# EAGLE library part CH9121 (library misc)
Ethernet Transceivers 1.8V, 3.3V IEEE 802.3 LQFP-64_10x10x05P
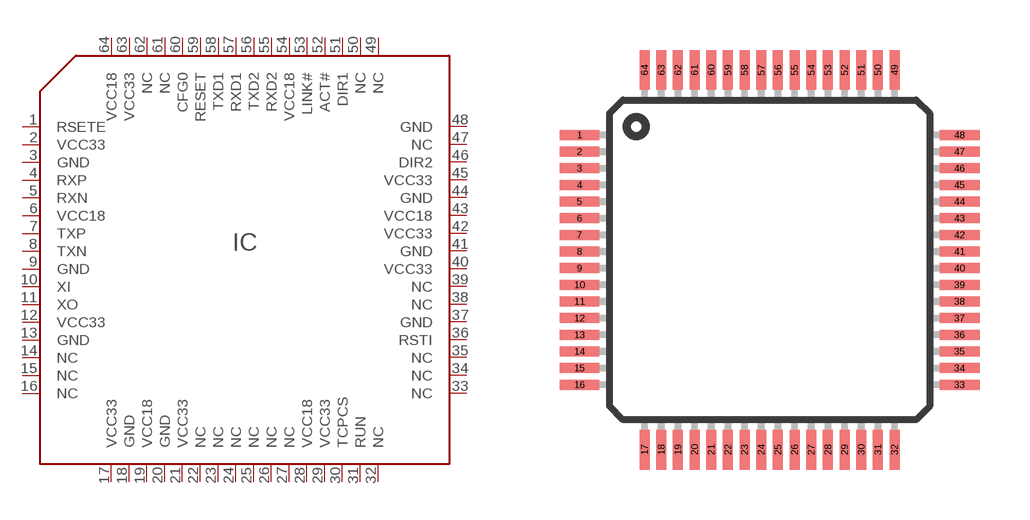
[diagram p13: symbol with the pads of TQFP64; footprint TQFP64]

Designator prefix IC

## CH9121 (LCSC#: C87389; MANF: WCH(Jiangsu Qin Heng); MANF#: CH9121)  [TQFP64]
1  RSETE
2  VCC33
3  GND
4  RXP
5  RXN
6  VCC18
7  TXP
8  TXN
9  GND
10  XI
11  XO
12  VCC33
13  GND
14  NC
15  NC
16  NC
17  VCC33
18  GND
19  VCC18
20  GND
21  VCC33
22  NC
23  NC
24  NC
25  NC
26  NC
27  NC
28  VCC18
29  VCC33
30  TCPCS
31  RUN
32  NC
33  NC
34  NC
35  NC
36  RSTI
37  GND
38  NC
39  NC
40  VCC33
41  GND
42  VCC33
43  VCC18
44  GND
45  VCC33
46  DIR2
47  NC
48  GND
49  NC
50  NC
51  DIR1
52  ACT#
53  LINK#
54  VCC18
55  RXD2
56  TXD2
57  RXD1
58  TXD1
59  RESET
60  CFG0
61  NC
62  NC
63  VCC33
64  VCC18

## Footprint TQFP64 (pad centres in mm)
Thin Quad Flat Pack package type TQ
smd 1.2 x 0.3: 1 -5.7,3.75; 2 -5.7,3.25; 3 -5.7,2.75; 4 -5.7,2.25; 5 -5.7,1.75; 6 -5.7,1.25; 7 -5.7,0.75; 8 -5.7,0.25; 9 -5.7,-0.25; 10 -5.7,-0.75; 11 -5.7,-1.25; 12 -5.7,-1.75; 13 -5.7,-2.25; 14 -5.7,-2.75; 15 -5.7,-3.25; 16 -5.7,-3.75; 33 5.7,-3.75; 34 5.7,-3.25; 35 5.7,-2.75; 36 5.7,-2.25; 37 5.7,-1.75; 38 5.7,-1.25; 39 5.7,-0.75; 40 5.7,-0.25; 41 5.7,0.25; 42 5.7,0.75; 43 5.7,1.25; 44 5.7,1.75; 45 5.7,2.25; 46 5.7,2.75; 47 5.7,3.25; 48 5.7,3.75
smd 0.3 x 1.2: 17 -3.75,-5.7; 18 -3.25,-5.7; 19 -2.75,-5.7; 20 -2.25,-5.7; 21 -1.75,-5.7; 22 -1.25,-5.7; 23 -0.75,-5.7; 24 -0.25,-5.7; 25 0.25,-5.7; 26 0.75,-5.7; 27 1.25,-5.7; 28 1.75,-5.7; 29 2.25,-5.7; 30 2.75,-5.7; 31 3.25,-5.7; 32 3.75,-5.7; 49 3.75,5.7; 50 3.25,5.7; 51 2.75,5.7; 52 2.25,5.7; 53 1.75,5.7; 54 1.25,5.7; 55 0.75,5.7; 56 0.25,5.7; 57 -0.25,5.7; 58 -0.75,5.7; 59 -1.25,5.7; 60 -1.75,5.7; 61 -2.25,5.7; 62 -2.75,5.7; 63 -3.25,5.7; 64 -3.75,5.7